# Altium integrated library LM2664M6.IntLib: 1 symbol
Pins are listed as number, name and electrical type; pins without a type are passive.

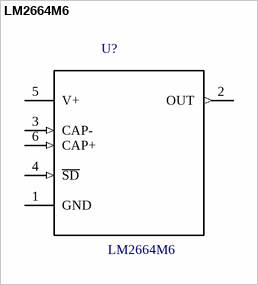
[diagram p0: symbol LM2664M6]

## LM2664M6
designator U?
Switched Capacitor Voltage Converter 6-SOT-23 -40 to 85; MF: Texas Instruments; MP: LM2664M6/NOPB; Package: SOT-23-6 Texas Instruments; Digi-Key_Purchase_URL: https://www.digikey.com.ua/product-detail/en/texas-instruments/LM2664M6-NOPB/LM2664M6-NOPBCT-ND/363758?utm_source=snapeda&utm_medium=aggregator&utm_campaign=symbol; SnapEDA_Link: https://www.snapeda.com/parts/LM2664M6/NOPB/Texas%20Instruments/view-part/?ref=snap; Digi-Key_Part_Number: LM2664M6/NOPBCT-ND; Value: *
footprint *SOT95P300X120-6N
pins: 1 GND, 2 OUT (out), 3 CAP- (in), 4 ~{SD} (in), 5 V+ (power), 6 CAP+ (in)